# Altium schematic symbol library XB3-24Z8UT-J.SchLib: 1 symbol
Pins are listed as number, name and electrical type; pins without a type are passive.

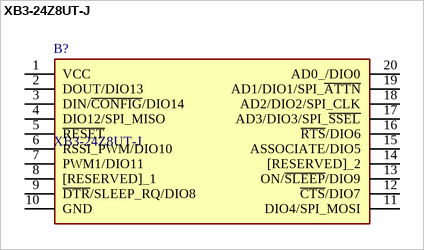
[diagram p0: symbol XB3-24Z8UT-J]

## XB3-24Z8UT-J
designator B?
Zigbee Modules (802.15.4) XBee3,2.4 Ghz ZB 3.0, U.FL Ant, TH MT; Manufacturer_Name: Digi International; Geometry.Height: 2.79mm; Mouser Part Number: 888-XB3-24Z8UT-J; Mouser Price/Stock: https://www.mouser.com/Search/Refine.aspx?Keyword=888-XB3-24Z8UT-J; Manufacturer_Part_Number: XB3-24Z8UT-J; Datasheet Link: https://componentsearchengine.com/Datasheets/1/XB3-24Z8UT-J.pdf
footprint XB324Z8UTJ
pins: 1 VCC, 2 DOUT/DIO13, 3 DIN/~{CONFIG}/DIO14, 4 DIO12/SPI_MISO, 5 ~{RESET}, 6 RSSI_PWM/DIO10, 7 PWM1/DIO11, 8 [RESERVED]_1, 9 ~{DTR}/SLEEP_RQ/DIO8, 10 GND, 11 DIO4/SPI_MOSI, 12 ~{CTS}/DIO7, 13 ON/~{SLEEP}/DIO9, 14 [RESERVED]_2, 15 ASSOCIATE/DIO5, 16 ~{RTS}/DIO6, 17 AD3/DIO3/SPI_~{SSEL}, 18 AD2/DIO2/SPI_CLK, 19 AD1/DIO1/SPI_~{ATTN}, 20 AD0_/DIO0